# EAGLE library part SMSC-LAN9514 (library duraTerm)
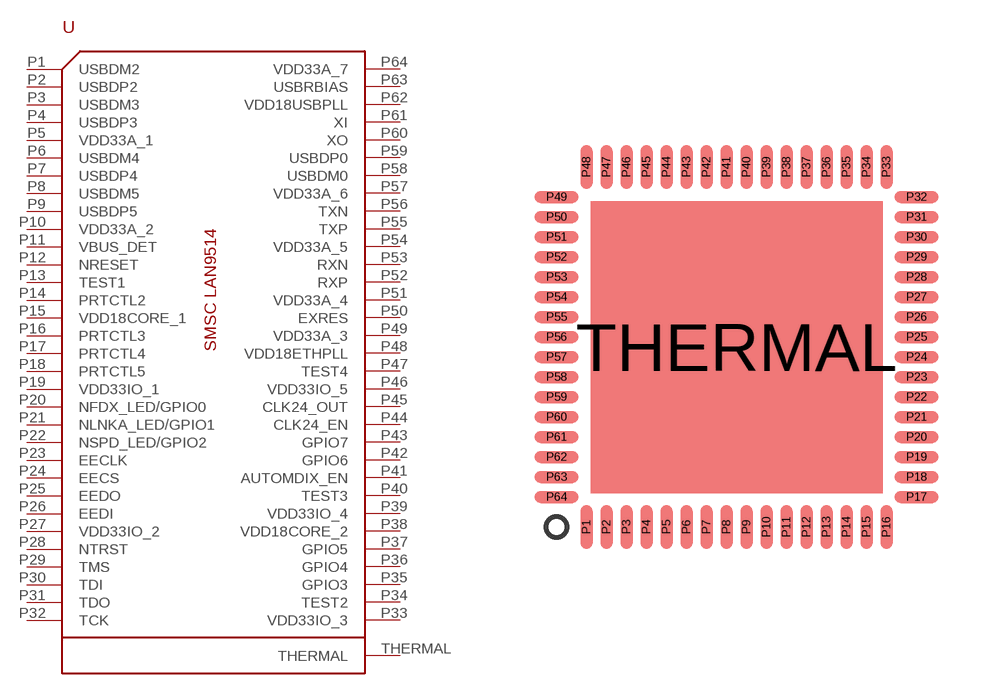
[diagram p5: symbol with the pads of SMSC-LAN9514; footprint SMSC-LAN9514]

Designator prefix U

## SMSC-LAN9514  [SMSC-LAN9514]
P1  USBDM2
P2  USBDP2
P3  USBDM3
P4  USBDP3
P5  VDD33A_1
P6  USBDM4
P7  USBDP4
P8  USBDM5
P9  USBDP5
P10  VDD33A_2
P11  VBUS_DET
P12  NRESET
P13  TEST1
P14  PRTCTL2
P15  VDD18CORE_1
P16  PRTCTL3
P17  PRTCTL4
P18  PRTCTL5
P19  VDD33IO_1
P20  NFDX_LED/GPIO0
P21  NLNKA_LED/GPIO1
P22  NSPD_LED/GPIO2
P23  EECLK
P24  EECS
P25  EEDO
P26  EEDI
P27  VDD33IO_2
P28  NTRST
P29  TMS
P30  TDI
P31  TDO
P32  TCK
P33  VDD33IO_3
P34  TEST2
P35  GPIO3
P36  GPIO4
P37  GPIO5
P38  VDD18CORE_2
P39  VDD33IO_4
P40  TEST3
P41  AUTOMDIX_EN
P42  GPIO6
P43  GPIO7
P44  CLK24_EN
P45  CLK24_OUT
P46  VDD33IO_5
P47  TEST4
P48  VDD18ETHPLL
P49  VDD33A_3
P50  EXRES
P51  VDD33A_4
P52  RXP
P53  RXN
P54  VDD33A_5
P55  TXP
P56  TXN
P57  VDD33A_6
P58  USBDM0
P59  USBDP0
P60  XO
P61  XI
P62  VDD18USBPLL
P63  USBRBIAS
P64  VDD33A_7
THERMAL  THERMAL

## Footprint SMSC-LAN9514 (pad centres in mm)
smd 0.3 x 1.1: P1 -3.75,-4.5; P2 -3.25,-4.5; P3 -2.75,-4.5; P4 -2.25,-4.5; P5 -1.75,-4.5; P6 -1.25,-4.5; P7 -0.75,-4.5; P8 -0.25,-4.5; P9 0.25,-4.5; P10 0.75,-4.5; P11 1.25,-4.5; P12 1.75,-4.5; P13 2.25,-4.5; P14 2.75,-4.5; P15 3.25,-4.5; P16 3.75,-4.5; P33 3.75,4.5; P34 3.25,4.5; P35 2.75,4.5; P36 2.25,4.5; P37 1.75,4.5; P38 1.25,4.5; P39 0.75,4.5; P40 0.25,4.5; P41 -0.25,4.5; P42 -0.75,4.5; P43 -1.25,4.5; P44 -1.75,4.5; P45 -2.25,4.5; P46 -2.75,4.5; P47 -3.25,4.5; P48 -3.75,4.5
smd 1.1 x 0.3: P17 4.5,-3.75; P18 4.5,-3.25; P19 4.5,-2.75; P20 4.5,-2.25; P21 4.5,-1.75; P22 4.5,-1.25; P23 4.5,-0.75; P24 4.5,-0.25; P25 4.5,0.25; P26 4.5,0.75; P27 4.5,1.25; P28 4.5,1.75; P29 4.5,2.25; P30 4.5,2.75; P31 4.5,3.25; P32 4.5,3.75; P49 -4.5,3.75; P50 -4.5,3.25; P51 -4.5,2.75; P52 -4.5,2.25; P53 -4.5,1.75; P54 -4.5,1.25; P55 -4.5,0.75; P56 -4.5,0.25; P57 -4.5,-0.25; P58 -4.5,-0.75; P59 -4.5,-1.25; P60 -4.5,-1.75; P61 -4.5,-2.25; P62 -4.5,-2.75; P63 -4.5,-3.25; P64 -4.5,-3.75
smd 7.3 x 7.3: THERMAL 0,0